# Altium footprint library PCB_Lib.PcbLib: 31 footprints (part 1 of 2)
Each footprint in its own frame and in the unit in brackets; x right, y up, seen from the top. Pads: shape width x height; smd on the part's side, far side on the other; paste and mask are expansions set on the pad; w line width, h text height; cw(c..) or ccw(c..) is an arc to the next point about the centre after c.
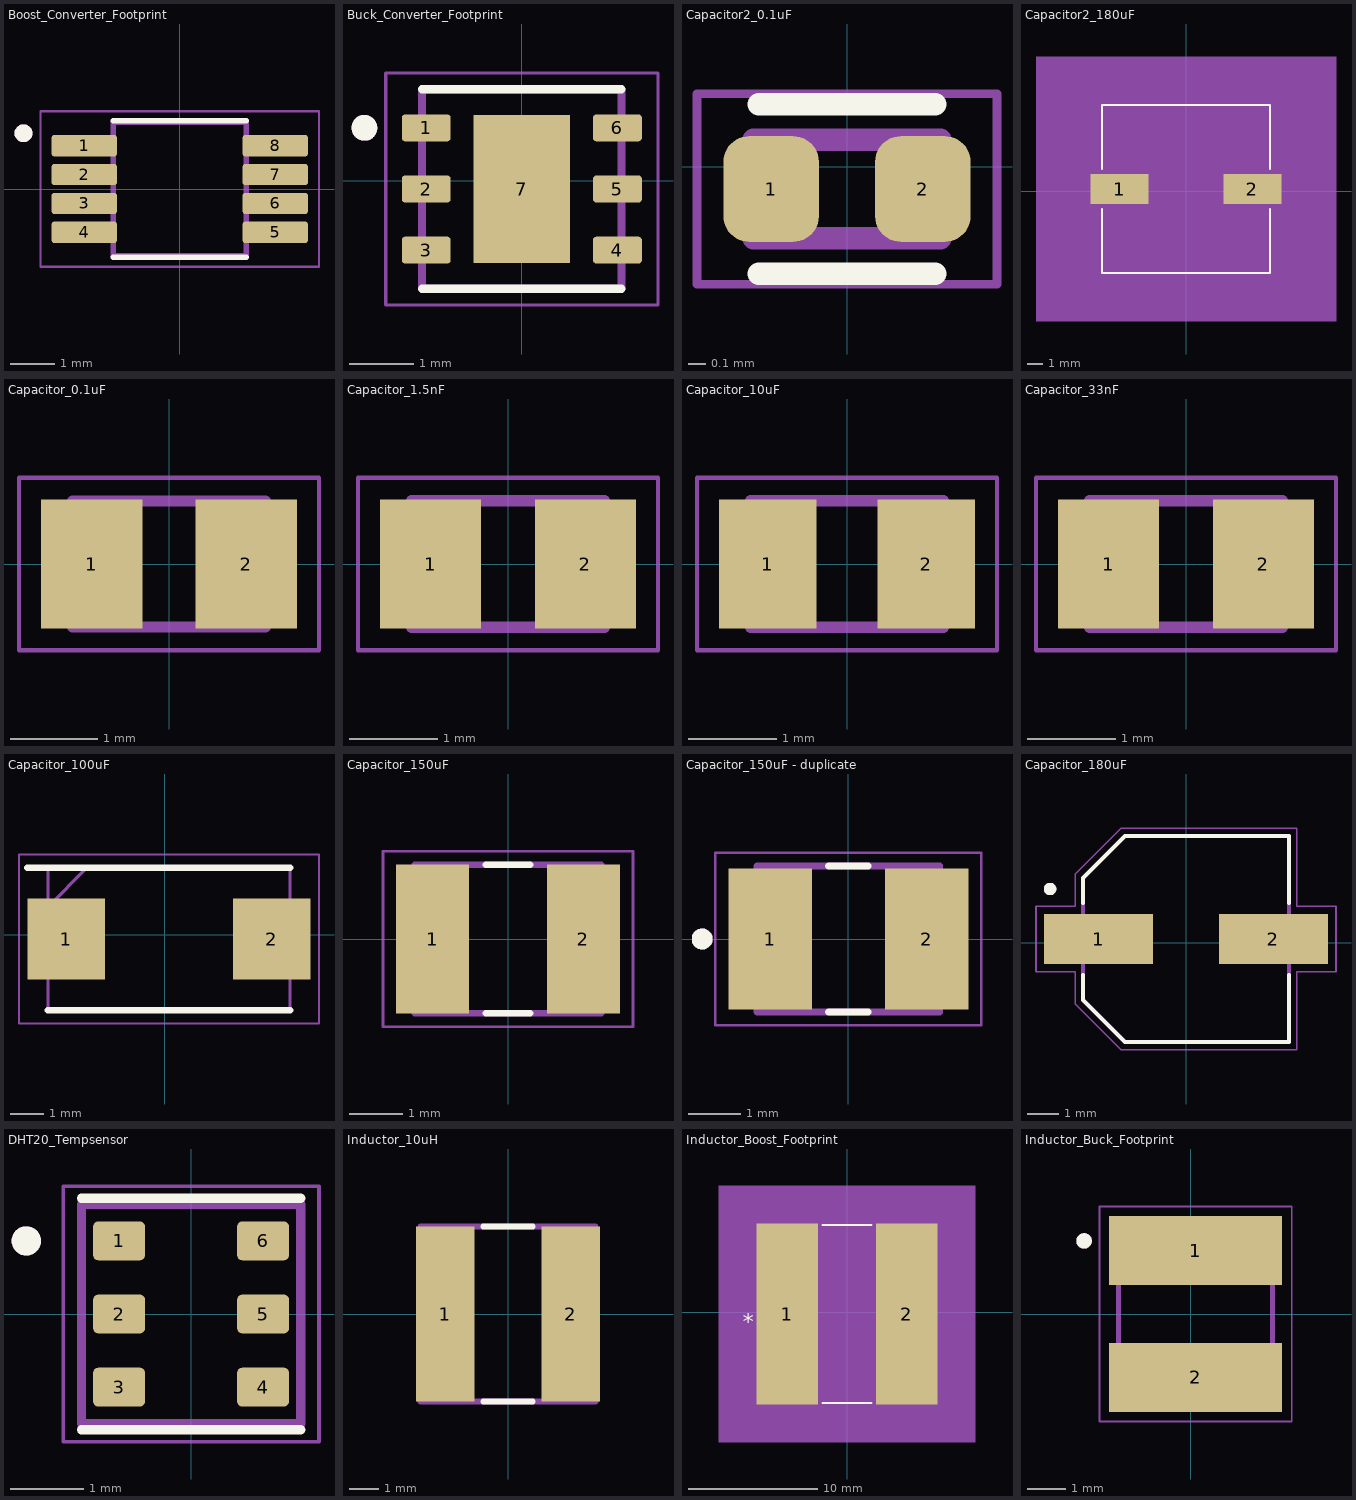
[diagram p0: the footprints below, top view; thin cyan lines are the x and y axes]

## Boost_Converter_Footprint [mm]
pads (8):
  rrect25% 1.47x0.48 smd: 1(-2.15,0.975) 2(-2.15,0.325) 3(-2.15,-0.325) 4(-2.15,-0.975) 5(2.15,-0.975) 6(2.15,-0.325) 7(2.15,0.325) 8(2.15,0.975)
Top Overlay:
  circle w0.2: c-3.52,1.255 r0.1
  lines w0.127: -1.5,-1.535 1.5,-1.535 ; -1.5,1.535 1.5,1.535
Mechanical 13:
  circle w0.2: c-3.52,1.255 r0.1
  lines w0.127: -1.5,-1.5 1.5,-1.5 1.5,1.5 -1.5,1.5 -1.5,-1.5
Mechanical 15:
  lines w0.05: -3.135,-1.75 3.135,-1.75 3.135,1.75 -3.135,1.75 -3.135,-1.75
3D body "step_temp.STEP": height 1.1, standoff 0, extent -2.45,-1.5 2.45,1.5

## Buck_Converter_Footprint [mm]
pads (7):
  rrect25% 0.76x0.42 smd: 1(-1.485,0.823) 2(-1.485,-0.127) 3(-1.485,-1.077) 4(1.485,-1.077) 5(1.485,-0.127) 6(1.485,0.823)
  rect 1.5x2.3 smd paste-2: 7(0,-0.127)
Top Overlay:
  circle w0.2: c-2.445,0.823 r0.1
  lines w0.127: -1.55,-1.677 1.55,-1.677 ; -1.55,1.423 1.55,1.423
Top Paste:
  region: 0.47,-0.857 -0.47,-0.857 -0.47,0.603 0.47,0.603
Mechanical 13:
  circle w0.2: c-2.445,0.823 r0.1
  lines w0.127: -1.55,-1.677 -1.55,1.423 1.55,1.423 1.55,-1.677 -1.55,-1.677
Mechanical 15:
  lines w0.05: -2.115,-1.927 -2.115,1.673 2.115,1.673 2.115,-1.927 -2.115,-1.927

## Capacitor2_0.1uF [mm]
pads (2):
  rrect53% 0.54x0.6 smd: 1(-0.43,-0.127) 2(0.43,-0.127)
Top Overlay:
  lines w0.127: -0.5,-0.607 0.5,-0.607 ; -0.5,0.353 0.5,0.353
Mechanical 13:
  lines w0.127: -0.53,-0.407 -0.53,0.153 0.53,0.153 0.53,-0.407 -0.53,-0.407
Mechanical 15:
  lines w0.05: -0.85,-0.667 -0.85,0.413 0.85,0.413 0.85,-0.667 -0.85,-0.667

## Capacitor2_180uF [mil]
pads (2):
  rect 144x75 smd paste+0 mask+0: 1(-164.5,5) 2(164.5,5)
Top Overlay:
  lines w6: -208,-45.6 -208,-203 208,-203 208,-45.6 ; -208,55.6 -208,213 208,213 208,55.6
Mechanical 5:
  region: 371.5,-323 -371.5,-323 -371.5,333 371.5,333
Mechanical 13:
  lines w1: -203,-96.5 -101.5,-198 ; -203,106.5 -101.5,208 ; -203,-198 -203,208 203,208 203,-198 -203,-198
Mechanical 15:
  region: -213,-42.5 -246.5,-42.5 -246.5,52.5 -213,52.5 -213,218 213,218 213,52.5 246.5,52.5 246.5,-42.5 213,-42.5 213,-208 -213,-208
  lines w6: -246.5,-42.5 -213,-42.5 -213,-208 213,-208 213,-42.5 246.5,-42.5 246.5,52.5 213,52.5 213,218 -213,218 -213,52.5 -246.5,52.5 -246.5,-42.5
3D body "CHEMI-J80.step": height 305.12, standoff 0, extent -216.5,-197.99 216.5,207.99

## Capacitor_0.1uF [mm]
pads (2):
  rect 1.16x1.47 smd: 1(-0.88,0) 2(0.88,0)
Mechanical 13:
  lines w0.127: -1.1,-0.72 1.1,-0.72 1.1,0.72 -1.1,0.72 -1.1,-0.72
Mechanical 15:
  lines w0.05: -1.713,-0.983 1.713,-0.983 1.713,0.983 -1.713,0.983 -1.713,-0.983

## Capacitor_1.5nF [mm]
pads (2):
  rect 1.15x1.47 smd: 1(-0.88,0) 2(0.88,0)
Mechanical 13:
  lines w0.127: -1.1,-0.72 1.1,-0.72 1.1,0.72 -1.1,0.72 -1.1,-0.72
Mechanical 15:
  lines w0.05: -1.708,-0.983 1.708,-0.983 1.708,0.983 -1.708,0.983 -1.708,-0.983
3D body "step_temp.STEP": height 0.75, standoff 0, extent -1,-0.625 1,0.625

## Capacitor_10uF [mm]
pads (2):
  rect 1.11x1.47 smd: 1(-0.9,0) 2(0.9,0)
Mechanical 13:
  lines w0.127: -1.1,-0.72 1.1,-0.72 1.1,0.72 -1.1,0.72 -1.1,-0.72
Mechanical 15:
  lines w0.05: -1.708,-0.983 1.708,-0.983 1.708,0.983 -1.708,0.983 -1.708,-0.983

## Capacitor_33nF [mm]
pads (2):
  rect 1.15x1.47 smd: 1(-0.88,0) 2(0.88,0)
Mechanical 13:
  lines w0.127: -1.1,-0.72 1.1,-0.72 1.1,0.72 -1.1,0.72 -1.1,-0.72
Mechanical 15:
  lines w0.05: -1.708,-0.983 1.708,-0.983 1.708,0.983 -1.708,0.983 -1.708,-0.983
3D body "step_temp.STEP": height 1.45, standoff 0, extent -1,-0.625 1,0.625

## Capacitor_100uF [mm]
pads (2):
  rect 2.35x2.45 smd: 1(-2.973,-0.127) 2(3.227,-0.127)
Top Overlay:
  lines w0.2: -4.148,2.023 3.777,2.023 ; -3.523,-2.277 3.777,-2.277
Mechanical 13:
  lines w0.1: -3.523,0.848 -2.348,2.023 ; -3.523,-2.277 -3.523,2.023 3.777,2.023 3.777,-2.277 -3.523,-2.277
Mechanical 15:
  lines w0.05: -4.398,-2.677 -4.398,2.423 4.652,2.423 4.652,-2.677 -4.398,-2.677
3D body "593D107X0010D2TE3.stp": height 2.92, standoff 0, extent -3.463,-2.336 3.725,2.08

## Capacitor_150uF [mm]
pads (2):
  rect 1.37x2.81 smd: 1(-1.42,0) 2(1.42,0)
Top Overlay:
  lines w0.127: -0.42,-1.4 0.42,-1.4 ; -0.42,1.4 0.42,1.4
Mechanical 13:
  lines w0.127: -1.75,-1.4 -1.75,1.4 1.75,1.4 1.75,-1.4 -1.75,-1.4
Mechanical 15:
  lines w0.05: -2.355,-1.655 -2.355,1.655 2.355,1.655 2.355,-1.655 -2.355,-1.655

## Capacitor_150uF - duplicate [mm]
pads (2):
  rect 1.6x2.7 smd: 1(-1.5,0) 2(1.5,0)
Top Overlay:
  circle w0.2: c-2.8,0 r0.1
  lines w0.127: -0.38,-1.4 0.38,-1.4 ; -0.38,1.4 0.38,1.4
Mechanical 13:
  circle w0.2: c-2.8,0 r0.1
  lines w0.127: -1.75,-1.4 -1.75,1.4 1.75,1.4 1.75,-1.4 -1.75,-1.4
Mechanical 15:
  lines w0.05: -2.55,-1.65 -2.55,1.65 2.55,1.65 2.55,-1.65 -2.55,-1.65

## Capacitor_180uF [mm]
pads (2):
  rect 3.5x1.6 smd: 1(-2.8,0.127) 2(2.8,0.127)
Top Overlay:
  circle w0.2: c-4.35,1.727 r0.1
  lines w0.127: -3.3,-1.023 -3.3,-1.823 -1.95,-3.173 3.3,-3.173 3.3,-1.023 ; -3.3,1.277 -3.3,2.077 -1.95,3.427 3.3,3.427 3.3,1.277
Mechanical 13:
  circle w0.2: c-4.35,1.727 r0.1
  lines w0.127: -3.3,-1.823 -3.3,2.077 -1.95,3.427 3.3,3.427 3.3,-3.173 -1.95,-3.173 -3.3,-1.823
Mechanical 15:
  lines w0.05: -4.8,-0.923 -4.8,1.177 -3.55,1.177 -3.55,2.202 -2.075,3.677 3.55,3.677 3.55,1.177 4.8,1.177 4.8,-0.923 3.55,-0.923 3.55,-3.423 -2.075,-3.423 -3.55,-1.948 -3.55,-0.923 -4.8,-0.923

## DHT20_Tempsensor [mm]
pads (6):
  rrect25% 0.71x0.53 smd: 1(-0.985,1) 2(-0.985,0) 3(-0.985,-1) 4(0.985,-1) 5(0.985,0) 6(0.985,1)
Top Overlay:
  circle w0.2: c-2.255,1 r0.1
  lines w0.127: -1.5,-1.585 1.5,-1.585 ; -1.5,1.585 1.5,1.585
Mechanical 13:
  circle w0.2: c-2.255,1 r0.1
  lines w0.127: -1.5,-1.5 -1.5,1.5 1.5,1.5 1.5,-1.5 -1.5,-1.5
Mechanical 15:
  lines w0.05: -1.75,-1.75 1.75,-1.75 1.75,1.75 -1.75,1.75 -1.75,-1.75

## Inductor_10uH [mm]
pads (2):
  rect 2.01x6 smd: 1(-2.15,0) 2(2.15,0)
Top Overlay:
  lines w0.2: -0.85,-3 0.85,-3 ; -0.85,3 0.85,3
Mechanical 13:
  lines w0.2: -3,-3 -3,3 3,3 3,-3 -3,-3
3D body "SRN6045-100M.stp": height 4.5, standoff 0, extent -3,-3 3,3

## Inductor_Boost_Footprint [mil]
pads (2):
  rect 187x551 smd paste+0 mask+0: 1(-182,-5) 2(182,-5)
Top Overlay:
  lines w6: -75.4,-276 75.4,-276 ; -75.4,266 75.4,266
  text "*" at -318.5,-55 h50
Mechanical 5:
  region: -391,386 391,386 391,-396 -391,-396
Mechanical 13:
  lines w1: -266,-138 -266,128 -133,261 133,261 266,128 266,-138 133,-271 -133,-271 -266,-138
  text "*" at -258.5,-55 h50
Mechanical 15:
  region: 285.5,-290.5 -285.5,-290.5 -285.5,280.5 285.5,280.5
  lines w6: -285.5,-290.5 -285.5,280.5 285.5,280.5 285.5,-290.5 -285.5,-290.5
3D body: height 10, standoff 0, extent 0,-5 10,5

## Inductor_Buck_Footprint [mm]
pads (2):
  rect 4.5x1.8 smd: 1(0.127,1.65) 2(0.127,-1.65)
Top Overlay:
  circle w0.2: c-2.773,1.9 r0.1
Mechanical 13:
  circle w0.2: c-2.773,1.9 r0.1
  lines w0.127: -1.873,-0.75 ccw(c0.127,-0.361) 2.127,-0.75 2.127,0.75 ccw(c0.127,0.361) -1.873,0.75 -1.873,-0.75
Mechanical 15:
  lines w0.05: -2.373,-2.8 -2.373,2.8 2.627,2.8 2.627,-2.8 -2.373,-2.8